# EAGLE library part SAA1027 (library SAA1027)
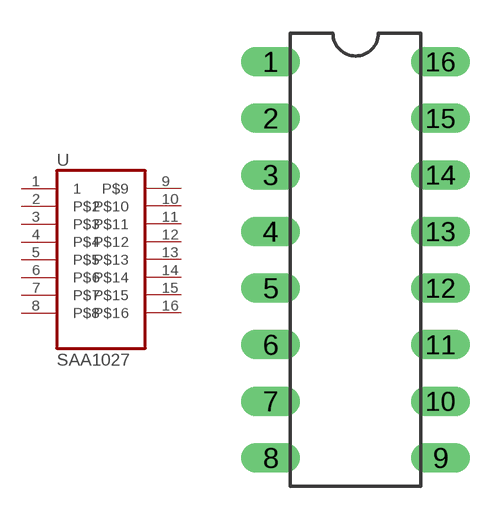
[diagram p0: symbol with the pads of SAA1027; footprint SAA1027]

Designator prefix -

## SAA1027  [SAA1027]
1  1  in
2  P$2  in
3  P$3  in
4  P$4  in
5  P$5  in
6  P$6  in
7  P$7  in
8  P$8  in
9  P$9  in
10  P$10  in
11  P$11  in
12  P$12  in
13  P$13  in
14  P$14  in
15  P$15  in
16  P$16  in

## Footprint SAA1027 (pad centres in mm)
drill 0.813 long: 1 -3.81,8.89; 2 -3.81,6.35; 3 -3.81,3.81; 4 -3.81,1.27; 5 -3.81,-1.27; 6 -3.81,-3.81; 7 -3.81,-6.35; 8 -3.81,-8.89; 9 3.81,-8.89; 10 3.81,-6.35; 11 3.81,-3.81; 12 3.81,-1.27; 13 3.81,1.27; 14 3.81,3.81; 15 3.81,6.35; 16 3.81,8.89